# EAGLE library part MS5412-BM (library my_components)
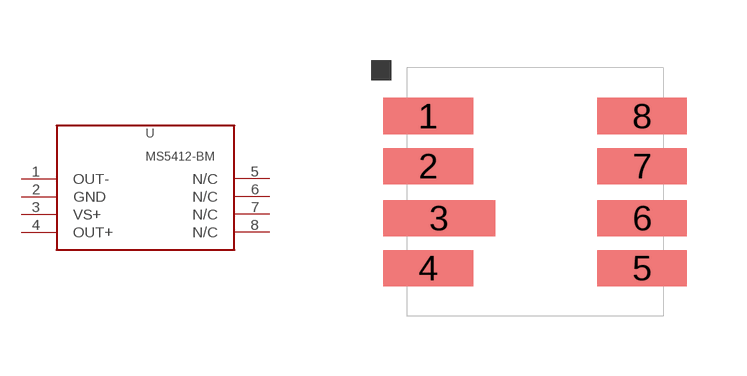
[diagram p2: symbol with the pads of MS54XX; footprint MS54XX]

Designator prefix -

## MS5412-BM  [MS54XX]
1  OUT-
2  GND
3  VS+
4  OUT+
5  N/C
6  N/C
7  N/C
8  N/C

## Footprint MS54XX (pad centres in mm)
smd 2.25 x 0.9: 1 -2.675,1.9; 2 -2.675,0.65; 4 -2.675,-1.9; 5 2.675,-1.9; 6 2.675,-0.65; 7 2.675,0.65; 8 2.675,1.9
smd 2.8 x 0.9: 3 -2.4,-0.65